# EAGLE library part MCP6232T-E/MS (library PiezoFFC)
IC, OP AMP, 1.8V, DUAL, R-R
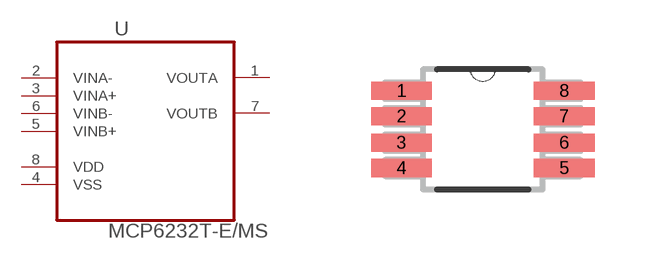
[diagram p8: symbol with the pads of SOP65P490X110-8N; footprint SOP65P490X110-8N]

Designator prefix U

## MCP6232T-E/MS (AVAILABILITY: Unavailable; DESCRIPTION: MCP6232 Series 6 V 300 kHz Thru Hole Rail-to-Rail Operational Amplifier - MSOP-8; MF: Microchip; MP: MCP6232T-E/MS; PACKAGE: MSOP-8 Microchip; PRICE: None)  [SOP65P490X110-8N]
1  VOUTA  out
2  VINA-  in
3  VINA+  in
4  VSS  pas
5  VINB+  in
6  VINB-  in
7  VOUTB  out
8  VDD  pwr

## Footprint SOP65P490X110-8N (pad centres in mm)
smd 1.524 x 0.457: 1 -2.032,0.965; 2 -2.032,0.33; 3 -2.032,-0.33; 4 -2.032,-0.965; 5 2.032,-0.965; 6 2.032,-0.33; 7 2.032,0.33; 8 2.032,0.965